# Altium schematic symbol library Interface.SchLib: 107 symbols (part 2 of 2)
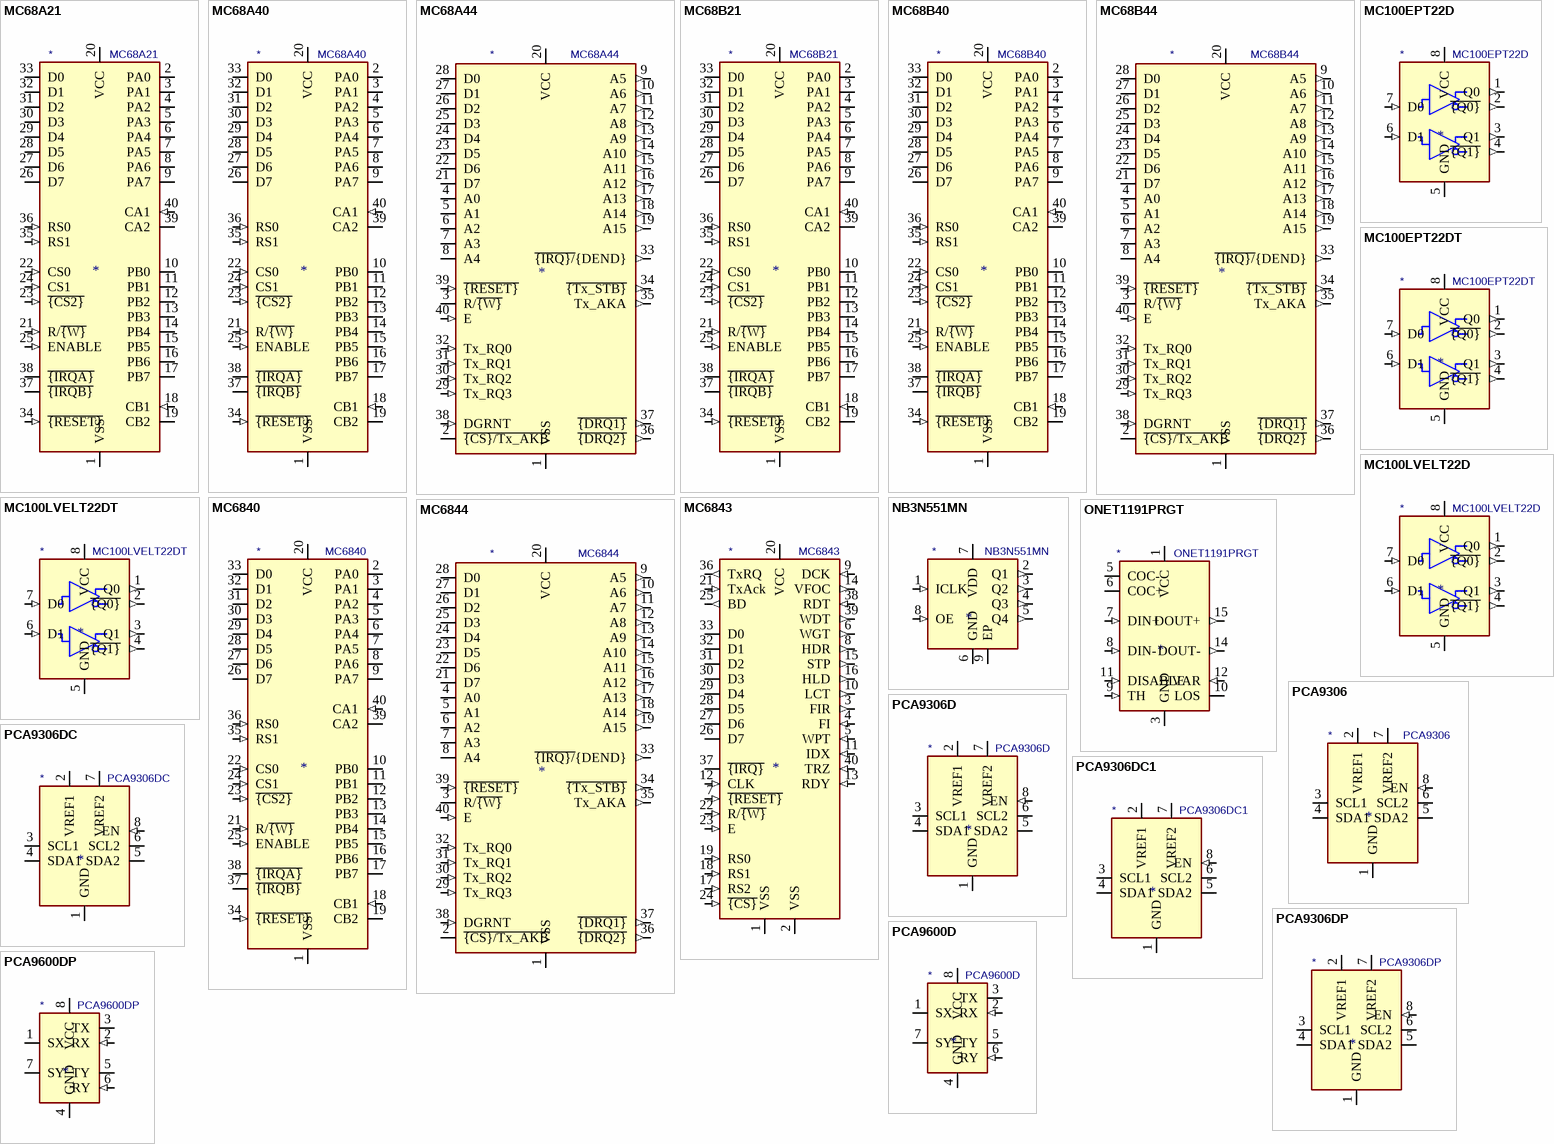
[diagram p6: symbols MC68A21 to PCA9600DP]

## NB3N551MN
designator *  value NB3N551MN
ki_keywords: clock buffer; ki_description: 1:4 Low Skew Clock Buffer, DFN-8; ki_fp_filters: DFN*1EP*2x2mm*P0.5mm*; Footprint: Package_DFN_QFN:DFN-8-1EP_2x2mm_P0.5mm_EP0.9x1.3mm; Supplier: https://www.onsemi.com/pub/Collateral/NB3N551-D.PDF
footprint DFN-8-1EP_2x2mm_P0.5mm_EP0.9x1.3mm
pins: 1 ICLK (in), 2 Q1 (out), 3 Q2 (out), 4 Q3 (out), 5 Q4 (out), 6 GND (power), 7 VDD (power), 8 OE (in), 9 EP

## ONET1191PRGT
designator *  value ONET1191PRGT
ki_keywords: limiting amplifier gigabit ethernet sfp sfp+; ki_description: 11.3-Gbps Limiting Amplifier, VQFN-16; ki_fp_filters: VQFN*1EP*3x3mm*P0.5mm*; Footprint: Package_DFN_QFN:VQFN-16-1EP_3x3mm_P0.5mm_EP1.68x1.68mm; Supplier: http://www.ti.com/lit/ds/symlink/onet1191p.pdf
footprint VQFN-16-1EP_3x3mm_P0.5mm_EP1.68x1.68mm
pins: 1 VCC (power), 2 VCC hidden, 3 GND (power), 4 GND hidden, 5 COC-, 6 COC+, 7 DIN+ (in), 8 DIN- (in), 9 TH (in), 10 LOS (oc), 11 DISABLE (in), 12 VAR (in), 13 GND hidden, 14 DOUT- (out), 15 DOUT+ (out), 16 GND hidden, 17 GND hidden

## PCA9306
designator *  value PCA9306
ki_keywords: Dual bidirectional I2C Bus and SMBus voltage level translator; ki_fp_filters: SSOP*2.95x2.8mm*P0.65mm* VSSOP*2.3x2mm*P0.5mm* X2SON*1.4x1mm*P0.35mm*; Supplier: http://www.ti.com/lit/ds/symlink/pca9306.pdf; ki_description: Dual bidirectional I2C Bus and SMBus voltage level translator
pins: 1 GND (power), 2 VREF1 (power), 3 SCL1 (io), 4 SDA1 (io), 5 SDA2 (io), 6 SCL2 (io), 7 VREF2 (power), 8 EN (in)

## PCA9306D
designator *  value PCA9306D
ki_keywords: I2C SMBus; ki_description: Dual bidirectional I2C Bus and SMBus voltage level translator, SO-8; ki_fp_filters: SO*3.9x4.9mm*P1.27mm*; Footprint: Package_SO:SO-8_3.9x4.9mm_P1.27mm; Supplier: https://www.nxp.com/docs/en/data-sheet/PCA9306.pdf
footprint SO-8_3.9x4.9mm_P1.27mm
pins: 1 GND (power), 2 VREF1 (power), 3 SCL1 (io), 4 SDA1 (io), 5 SDA2 (io), 6 SCL2 (io), 7 VREF2 (power), 8 EN (in)

## PCA9306DC
designator *  value PCA9306DC
ki_keywords: I2C SMBus; ki_description: Dual bidirectional I2C Bus and SMBus voltage level translator, VSSOP-8, Discontinued; ki_fp_filters: VSSOP*2.3x2mm*P0.5mm*; Footprint: Package_SO:VSSOP-8_2.3x2mm_P0.5mm; Supplier: https://www.nxp.com/docs/en/data-sheet/PCA9306.pdf
footprint VSSOP-8_2.3x2mm_P0.5mm
pins: 1 GND (power), 2 VREF1 (power), 3 SCL1 (io), 4 SDA1 (io), 5 SDA2 (io), 6 SCL2 (io), 7 VREF2 (power), 8 EN (in)

## PCA9306DC1
designator *  value PCA9306DC1
ki_keywords: I2C SMBus; ki_description: Dual bidirectional I2C Bus and SMBus voltage level translator, VSSOP-8; ki_fp_filters: VSSOP*2.3x2mm*P0.5mm*; Footprint: Package_SO:VSSOP-8_2.3x2mm_P0.5mm; Supplier: https://www.nxp.com/docs/en/data-sheet/PCA9306.pdf
footprint VSSOP-8_2.3x2mm_P0.5mm
pins: 1 GND (power), 2 VREF1 (power), 3 SCL1 (io), 4 SDA1 (io), 5 SDA2 (io), 6 SCL2 (io), 7 VREF2 (power), 8 EN (in)

## PCA9306DP
designator *  value PCA9306DP
ki_keywords: I2C SMBus; ki_description: Dual bidirectional I2C Bus and SMBus voltage level translator, TSSOP-8; ki_fp_filters: TSSOP*3x3mm*P0.65mm*; Footprint: Package_SO:TSSOP-8_3x3mm_P0.65mm; Supplier: https://www.nxp.com/docs/en/data-sheet/PCA9306.pdf
footprint TSSOP-8_3x3mm_P0.65mm
pins: 1 GND (power), 2 VREF1 (power), 3 SCL1 (io), 4 SDA1 (io), 5 SDA2 (io), 6 SCL2 (io), 7 VREF2 (power), 8 EN (in)

## PCA9600D
designator *  value PCA9600D
ki_keywords: I2C buffer; ki_description: Dual bidirectional bus buffer, SO-8; ki_fp_filters: SO*3.9x4.9mm*P1.27mm*; Footprint: Package_SO:SO-8_3.9x4.9mm_P1.27mm; Supplier: https://www.nxp.com/docs/en/data-sheet/PCA9600.pdf
footprint SO-8_3.9x4.9mm_P1.27mm
pins: 1 SX (io), 2 RX (in), 3 TX (oc), 4 GND (power), 5 TY (oc), 6 RY (in), 7 SY (io), 8 VCC (power)

## PCA9600DP
designator *  value PCA9600DP
ki_keywords: I2C buffer; ki_description: Dual bidirectional bus buffer, TSSOP-8; ki_fp_filters: TSSOP*3x3mm*P0.65mm*; Footprint: Package_SO:TSSOP-8_3x3mm_P0.65mm; Supplier: https://www.nxp.com/docs/en/data-sheet/PCA9600.pdf
footprint TSSOP-8_3x3mm_P0.65mm
pins: 1 SX (io), 2 RX (in), 3 TX (oc), 4 GND (power), 5 TY (oc), 6 RY (in), 7 SY (io), 8 VCC (power)

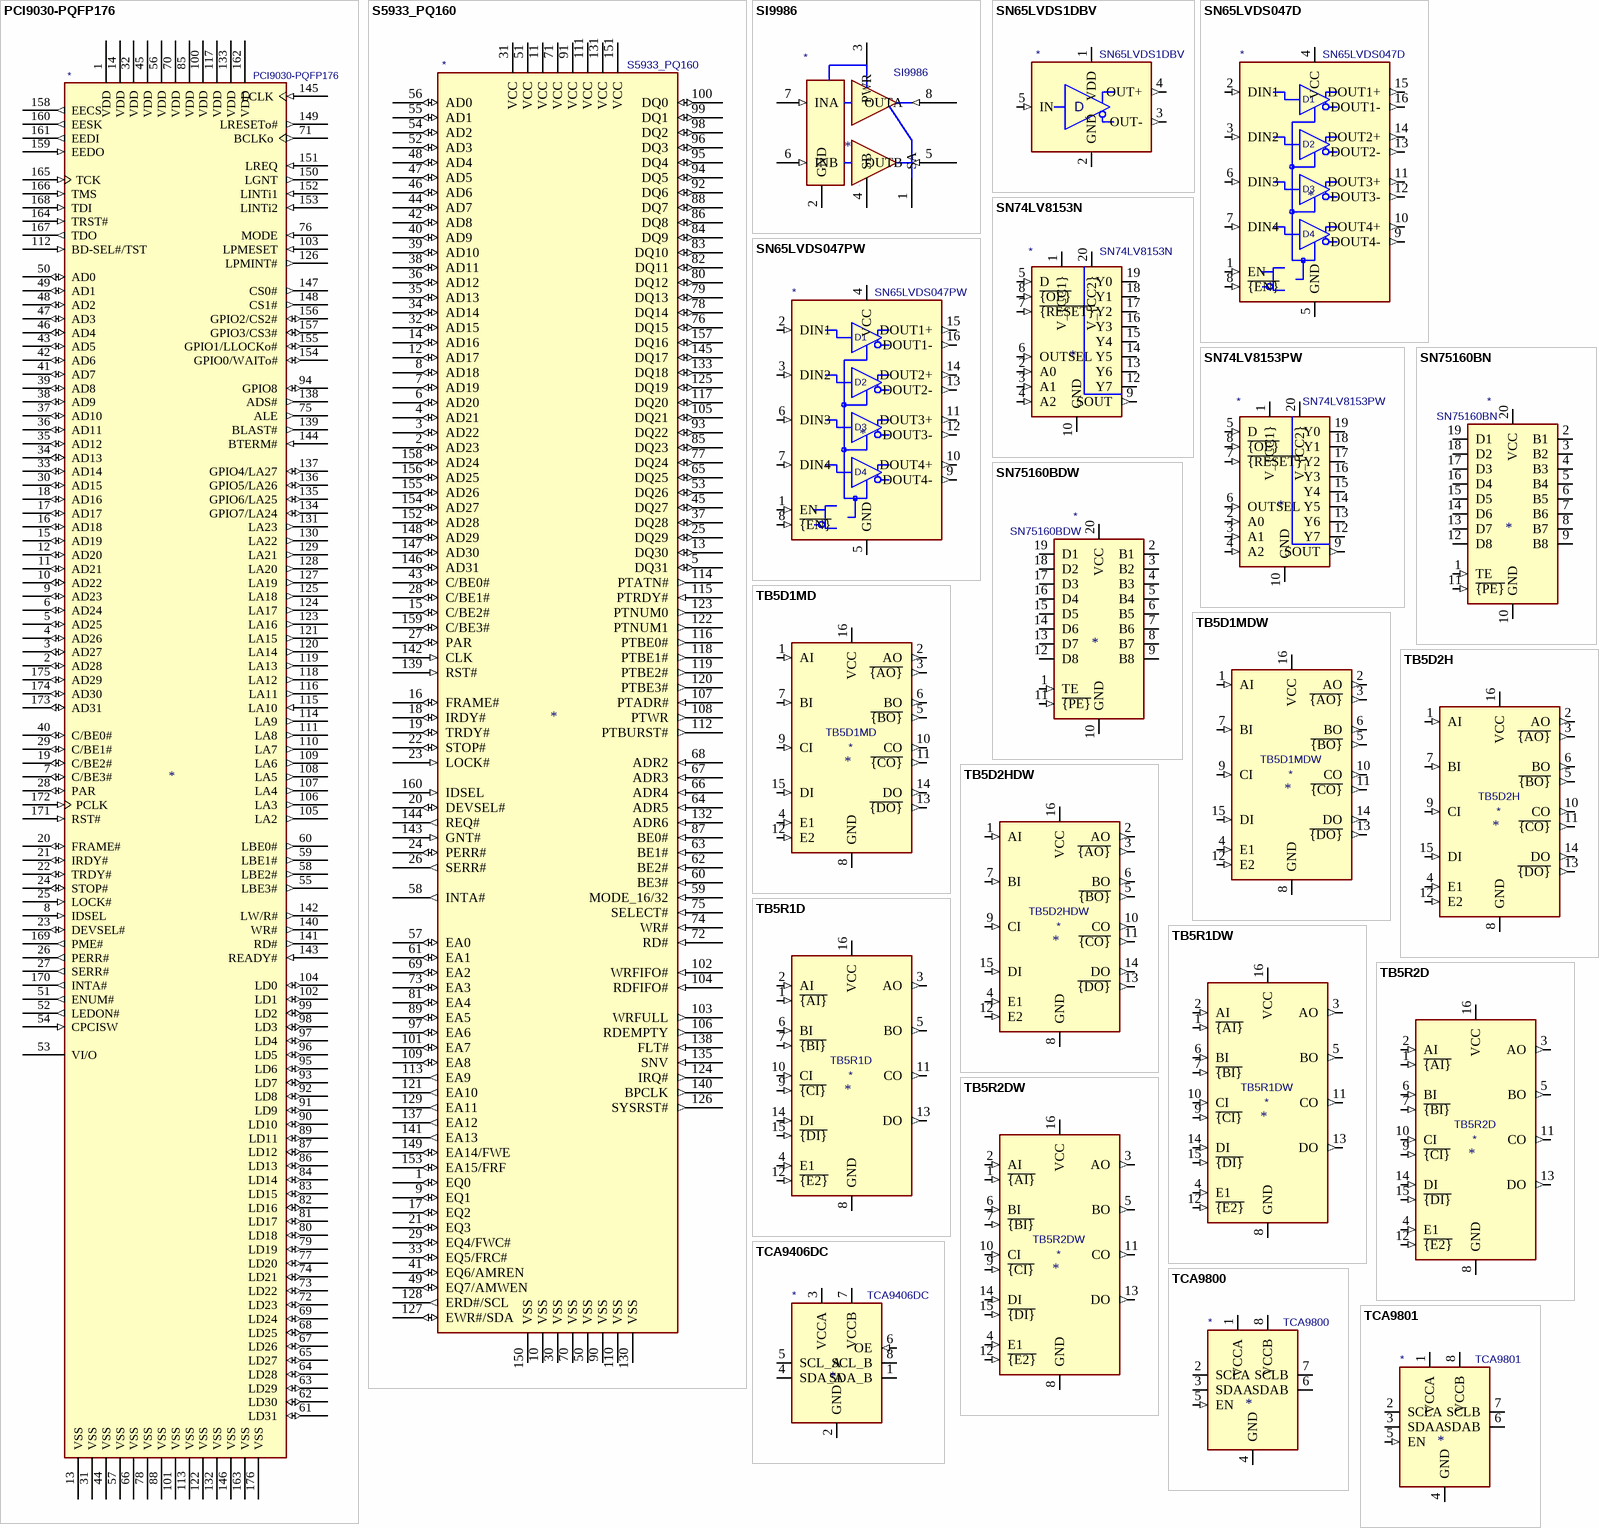
[diagram p4: symbols PCI9030-PQFP176 to TCA9801]

## PCI9030-PQFP176
designator *  value PCI9030-PQFP176
ki_keywords: PCI; ki_description: PCI SMARTarget I/O Accelerator; ki_fp_filters: LQFP*24x24mm*P0.5mm*; Footprint: Package_QFP:LQFP-176_24x24mm_P0.5mm; Supplier: http://lhcb-online.web.cern.ch/lhcb-online/ecs/ccpc/docs/plc-9030-databook.pdf
footprint LQFP-176_24x24mm_P0.5mm
pins: 1 VDD (power), 2 AD28 (io), 3 AD27 (io), 4 AD26 (io), 5 AD25 (io), 6 AD24 (io), 7 C/BE3# (io), 8 IDSEL (in), 9 AD23 (io), 10 AD22 (io), 11 AD21 (io), 12 AD20 (io), 13 VSS (power), 14 VDD (power), 15 AD19 (io), 16 AD18 (io), 17 AD17 (io), 18 AD16 (io), 19 C/BE2# (io), 20 FRAME# (io), 21 IRDY# (io), 22 TRDY# (io), 23 DEVSEL# (io), 24 STOP# (io), 25 LOCK# (in), 26 PERR# (out), 27 SERR# (out), 28 PAR (io), 29 C/BE1# (io), 30 AD15 (io), 31 VSS (power), 32 VDD (power), 33 AD14 (io), 34 AD13 (io), 35 AD12 (io), 36 AD11 (io), 37 AD10 (io), 38 AD9 (io), 39 AD8 (io), 40 C/BE0# (io), 41 AD7 (io), 42 AD6 (io), 43 AD5 (io), 44 VSS (power), 45 VDD (power), 46 AD4 (io), 47 AD3 (io), 48 AD2 (io), 49 AD1 (io), 50 AD0 (io), 51 ENUM# (out), 52 LEDON# (out), 53 VI/O (power), 54 CPCISW (in), 55 LBE3# (out), 56 VDD (power), 57 VSS (power), 58 LBE2# (out), 59 LBE1# (out), 60 LBE0# (out), 61 LD31 (io), 62 LD30 (io), 63 LD29 (io), 64 LD28 (io), 65 LD27 (io), 66 VSS (power), 67 LD26 (io), 68 LD25 (io), 69 LD24 (io), 70 VDD (power), 71 BCLKo (out), 72 LD23 (io), 73 LD22 (io), 74 LD21 (io), 75 ALE (out), 76 MODE (in), 77 LD20 (io), 78 VSS (power), 79 LD19 (io), 80 LD18 (io), 81 LD17 (io), 82 LD16 (io), 83 LD15 (io), 84 LD14 (io), 85 VDD (power), 86 LD13 (io), 87 LD12 (io), 88 VSS (power), 89 LD11 (io), 90 LD10 (io), 91 LD9 (io), 92 LD8 (io), 93 LD7 (io), 94 GPIO8 (io), 95 LD6 (io), 96 LD5 (io), 97 LD4 (io), 98 LD3 (io), 99 LD2 (io), 100 VDD (power), 101 VSS (power), 102 LD1 (io), 103 LPMESET (in), 104 LD0 (io), 105 LA2 (out), 106 LA3 (out), 107 LA4 (out), 108 LA5 (out), 109 LA6 (out), 110 LA7 (out), 111 LA8 (out), 112 BD-SEL#/TST (in), 113 VSS (power), 114 LA9 (out), 115 LA10 (in), 116 LA11 (out), 117 VDD (power), 118 LA12 (out), 119 LA13 (out), 120 LA14 (out), 121 LA15 (out), 122 VSS (power), 123 LA16 (out), 124 LA17 (out), 125 LA18 (out), 126 LPMINT# (out), 127 LA19 (out), 128 LA20 (out), 129 LA21 (out), 130 LA22 (out), 131 LA23 (out), 132 VSS (power), 133 VDD (power), 134 GPIO7/LA24 (io), 135 GPIO6/LA25 (io), 136 GPIO5/LA26 (io), 137 GPIO4/LA27 (io), 138 ADS# (out), 139 BLAST# (out), 140 WR# (out), 141 RD# (out), 142 LW/R# (out), 143 READY# (in), 144 BTERM# (in), 145 LCLK (in), 146 VSS (power), 147 CS0# (out), 148 CS1# (out), 149 LRESETo# (out), 150 LGNT (out), 151 LREQ (in), 152 LINTi1 (in), 153 LINTi2 (in), 154 GPIO0/WAITo# (io), 155 GPIO1/LLOCKo# (io), 156 GPIO2/CS2# (io), 157 GPIO3/CS3# (io), 158 EECS (out), 159 EEDO (in), 160 EESK (out), 161 EEDI (out), 162 VDD (power), 163 VSS (power), 164 TRST# (in), 165 TCK (in), 166 TMS (in), 167 TDO (out), 168 TDI (in), 169 PME# (out), 170 INTA# (out), 171 RST# (in), 172 PCLK (in), 173 AD31 (io), 174 AD30 (io), 175 AD29 (io), 176 VSS (power)

## S5933_PQ160
designator *  value S5933_PQ160
ki_keywords: PCI 2.1 Compliant Master/Slave Device; ki_description: PCI 2.1 Compliant Master/Slave Device, PQFP-160; ki_fp_filters: PQFP*28x28mm*P0.65mm*; Footprint: Package_QFP:PQFP-160_28x28mm_P0.65mm; Supplier: http://datasheet.datasheetarchive.com/originals/distributors/Datasheets-35/DSA-684194.pdf
footprint PQFP-160_28x28mm_P0.65mm
pins: 1 EQ0 (io), 2 AD23 (io), 3 AD22 (io), 4 AD21 (io), 5 DQ31 (io), 6 AD20 (io), 7 AD19 (io), 8 AD18 (io), 9 EQ1 (io), 10 VSS (power), 11 VCC (power), 12 AD17 (io), 13 DQ30 (io), 14 AD16 (io), 15 C/BE2# (io), 16 FRAME# (io), 17 EQ2 (io), 18 IRDY# (io), 19 TRDY# (io), 20 DEVSEL# (io), 21 EQ3 (io), 22 STOP# (io), 23 LOCK# (in), 24 PERR# (io), 25 DQ29 (io), 26 SERR# (out), 27 PAR (io), 28 C/BE1# (io), 29 EQ4/FWC# (io), 30 VSS (power), 31 VCC (power), 32 AD15 (io), 33 EQ5/FRC# (io), 34 AD14 (io), 35 AD13 (io), 36 AD12 (io), 37 DQ28 (io), 38 AD11 (io), 39 AD10 (io), 40 AD9 (io), 41 EQ6/AMREN (io), 42 AD8 (io), 43 C/BE0# (io), 44 AD7 (io), 45 DQ27 (io), 46 AD6 (io), 47 AD5 (io), 48 AD4 (io), 49 EQ7/AMWEN (io), 50 VSS (power), 51 VCC (power), 52 AD3 (io), 53 DQ26 (io), 54 AD2 (io), 55 AD1 (io), 56 AD0 (io), 57 EA0 (io), 58 INTA# (out), 59 MODE_16/32 (in), 60 BE3# (in), 61 EA1 (io), 62 BE2# (in), 63 BE1# (in), 64 ADR5 (in), 65 DQ25 (io), 66 ADR4 (in), 67 ADR3 (in), 68 ADR2 (in), 69 EA2 (io), 70 VSS (power), 71 VCC (power), 72 RD# (in), 73 EA3 (io), 74 WR# (in), 75 SELECT# (in), 76 DQ15 (io), 77 DQ24 (io), 78 DQ14 (io), 79 DQ13 (io), 80 DQ12 (io), 81 EA4 (io), 82 DQ11 (io), 83 DQ10 (io), 84 DQ9 (io), 85 DQ23 (io), 86 DQ8 (io), 87 BE0# (in), 88 DQ7 (io), 89 EA5 (io), 90 VSS (power), 91 VCC (power), 92 DQ6 (io), 93 DQ22 (io), 94 DQ5 (io), 95 DQ4 (io), 96 DQ3 (io), 97 EA6 (io), 98 DQ2 (io), 99 DQ1 (io), 100 DQ0 (io), 101 EA7 (io), 102 WRFIFO# (in), 103 WRFULL (out), 104 RDFIFO# (in), 105 DQ21 (io), 106 RDEMPTY (out), 107 PTADR# (in), 108 PTWR (out), 109 EA8 (io), 110 VSS (power), 111 VCC (power), 112 PTBURST# (out), 113 EA9 (out), 114 PTATN# (out), 115 PTRDY# (in), 116 PTBE0# (out), 117 DQ20 (io), 118 PTBE1# (out), 119 PTBE2# (out), 120 PTBE3# (out), 121 EA10 (out), 122 PTNUM1 (out), 123 PTNUM0 (out), 124 IRQ# (out), 125 DQ19 (io), 126 SYSRST# (out), 127 EWR#/SDA (io), 128 ERD#/SCL (out), 129 EA11 (out), 130 VSS (power), 131 VCC (power), 132 ADR6 (in), 133 DQ18 (io), 135 SNV (in), 137 EA12 (out), 138 FLT# (in), 139 RST# (in), 140 BPCLK (out), 141 EA13 (out), 142 CLK (in), 143 GNT# (in), 144 REQ# (out), 145 DQ17 (io), 146 AD31 (io), 147 AD30 (io), 148 AD29 (io), 149 EA14/FWE (io), 150 VSS (power), 151 VCC (power), 152 AD28 (io), 153 EA15/FRF (io), 154 AD27 (io), 155 AD26 (io), 156 AD25 (io), 157 DQ16 (io), 158 AD24 (io), 159 C/BE3# (io), 160 IDSEL (in)

## SI9986
designator *  value SI9986
ki_keywords: integrated, buffered H-bridge; ki_description: Integrated, buffered H-bridge with TTL compatible inputs, 1A, 12V, SOIC-8; ki_fp_filters: SOIC*3.9x4.9mm*P1.27mm*; Footprint: Package_SO:SOIC-8_3.9x4.9mm_P1.27mm; Supplier: http://www.vishay.com/docs/70007/si9986.pdf
footprint SOIC-8_3.9x4.9mm_P1.27mm
pins: 1 SA (power), 2 GND (power), 3 PWR (power), 4 SB (power), 5 OUTB (in), 6 INB (in), 7 INA (in), 8 OUTA (in)

## SN65LVDS1DBV
designator *  value SN65LVDS1DBV
ki_keywords: LVDS Driver; ki_description: High-Speed Differential Line Driver, 630Mbps, SOT-23-5; ki_fp_filters: SOT?23*; Footprint: Package_TO_SOT_SMD:SOT-23-5; Supplier: http://www.ti.com/lit/ds/symlink/sn65lvds1.pdf
footprint SOT-23-5
pins: 1 VDD (power), 2 GND (power), 3 OUT- (out), 4 OUT+ (out), 5 IN (in)
text: D

## SN65LVDS047D
designator *  value SN65LVDS047D
ki_keywords: Quad LVDS Driver; ki_description: Quad LVDS Differential Line Driver, 400Mbps, SOIC-16; ki_fp_filters: SOIC*3.9x9.9mm*P1.27mm*; Footprint: Package_SO:SOIC-16_3.9x9.9mm_P1.27mm; Supplier: http://www.ti.com/lit/ds/symlink/sn65lvds047.pdf
footprint SOIC-16_3.9x9.9mm_P1.27mm
pins: 1 EN (in), 2 DIN1 (in), 3 DIN2 (in), 4 VCC (power), 5 GND (power), 6 DIN3 (in), 7 DIN4 (in), 8 ~{{EN}} (in), 9 DOUT4- (out), 10 DOUT4+ (out), 11 DOUT3+ (out), 12 DOUT3- (out), 13 DOUT2- (out), 14 DOUT2+ (out), 15 DOUT1+ (out), 16 DOUT1- (out)
text: D1; D2; D3; D4

## SN65LVDS047PW
designator *  value SN65LVDS047PW
ki_keywords: Quad LVDS Driver; ki_description: Quad LVDS Differential Line Driver, 400Mbps, TSSOP-16; ki_fp_filters: TSSOP*4.4x5mm*P0.65mm*; Footprint: Package_SO:TSSOP-16_4.4x5mm_P0.65mm; Supplier: http://www.ti.com/lit/ds/symlink/sn65lvds047.pdf
footprint TSSOP-16_4.4x5mm_P0.65mm
pins: 1 EN (in), 2 DIN1 (in), 3 DIN2 (in), 4 VCC (power), 5 GND (power), 6 DIN3 (in), 7 DIN4 (in), 8 ~{{EN}} (in), 9 DOUT4- (out), 10 DOUT4+ (out), 11 DOUT3+ (out), 12 DOUT3- (out), 13 DOUT2- (out), 14 DOUT2+ (out), 15 DOUT1+ (out), 16 DOUT1- (out)
text: D1; D2; D3; D4

## SN74LV8153N
designator *  value SN74LV8153N
ki_keywords: serial to parallel; ki_description: UART, Single wire input, Output 40mA, Open Collector or Push Pull, PDIP-20; ki_fp_filters: DIP*W7.62mm*; Footprint: Package_DIP:DIP-20_W7.62mm; Supplier: https://www.ti.com/lit/ds/symlink/sn74lv8153.pdf
footprint DIP-20_W7.62mm
pins: 1 V_{CC1} (power), 2 A0 (in), 3 A1 (in), 4 A2 (in), 5 D (in), 6 OUTSEL (in), 7 ~{{RESET}} (in), 8 ~{{OE}} (in), 9 SOUT (out), 10 GND (power), 11 GND hidden, 12 Y7 (oc), 13 Y6 (oc), 14 Y5 (oc), 15 Y4 (oc), 16 Y3 (oc), 17 Y2 (oc), 18 Y1 (oc), 19 Y0 (oc), 20 V_{CC2} (power)

## SN74LV8153PW
designator *  value SN74LV8153PW
ki_keywords: serial to parallel; ki_description: UART, Single wire input, Output 40mA, Open Collector or Push Pull, TSSOP-20; ki_fp_filters: TSSOP*4.4x6.5mm*P0.65mm*; Footprint: Package_SO:TSSOP-20_4.4x6.5mm_P0.65mm; Supplier: https://www.ti.com/lit/ds/symlink/sn74lv8153.pdf
footprint TSSOP-20_4.4x6.5mm_P0.65mm
pins: 1 V_{CC1} (power), 2 A0 (in), 3 A1 (in), 4 A2 (in), 5 D (in), 6 OUTSEL (in), 7 ~{{RESET}} (in), 8 ~{{OE}} (in), 9 SOUT (out), 10 GND (power), 11 GND hidden, 12 Y7 (oc), 13 Y6 (oc), 14 Y5 (oc), 15 Y4 (oc), 16 Y3 (oc), 17 Y2 (oc), 18 Y1 (oc), 19 Y0 (oc), 20 V_{CC2} (power)

## SN75160BDW
designator *  value SN75160BDW
ki_keywords: gpib bidirectional bus transceiver; ki_description: Octal general-purpose interface bus transceiver, SOIC-20; ki_fp_filters: SOIC*7.5x12.8mm*P1.27mm*; Footprint: Package_SO:SOIC-20W_7.5x12.8mm_P1.27mm; Supplier: http://www.ti.com/lit/ds/symlink/sn75160b.pdf
footprint SOIC-20W_7.5x12.8mm_P1.27mm
pins: 1 TE (in), 2 B1 (io), 3 B2 (io), 4 B3 (io), 5 B4 (io), 6 B5 (io), 7 B6 (io), 8 B7 (io), 9 B8 (io), 10 GND (power), 11 ~{{PE}} (in), 12 D8 (io), 13 D7 (io), 14 D6 (io), 15 D5 (io), 16 D4 (io), 17 D3 (io), 18 D2 (io), 19 D1 (io), 20 VCC (power)

## SN75160BN
designator *  value SN75160BN
ki_keywords: gpib bidirectional bus transceiver; ki_description: Octal general-purpose interface bus transceiver, DIP-20; ki_fp_filters: DIP*W7.62mm*; Footprint: Package_DIP:DIP-20_W7.62mm; Supplier: http://www.ti.com/lit/ds/symlink/sn75160b.pdf
footprint DIP-20_W7.62mm
pins: 1 TE (in), 2 B1 (io), 3 B2 (io), 4 B3 (io), 5 B4 (io), 6 B5 (io), 7 B6 (io), 8 B7 (io), 9 B8 (io), 10 GND (power), 11 ~{{PE}} (in), 12 D8 (io), 13 D7 (io), 14 D6 (io), 15 D5 (io), 16 D4 (io), 17 D3 (io), 18 D2 (io), 19 D1 (io), 20 VCC (power)

## TB5D1MD
designator *  value TB5D1MD
ki_keywords: differential PECL driver; ki_description: Quad differential PECL driver; ki_fp_filters: SOIC*3.9x9.9mm*P1.27*; Footprint: Package_SO:SOIC-16_3.9x9.9mm_P1.27mm; Supplier: http://www.ti.com/lit/ds/symlink/tb5d2h.pdf
footprint SOIC-16_3.9x9.9mm_P1.27mm
pins: 1 AI (in), 2 AO (out), 3 ~{{AO}} (out), 4 E1 (in), 5 ~{{BO}} (out), 6 BO (out), 7 BI (in), 8 GND (power), 9 CI (in), 10 CO (out), 11 ~{{CO}} (out), 12 E2 (in), 13 ~{{DO}} (out), 14 DO (out), 15 DI (in), 16 VCC (power)

## TB5D1MDW
designator *  value TB5D1MDW
ki_keywords: differential PECL driver; ki_description: Quad differential PECL driver; ki_fp_filters: SOIC*7.5x10.3mm*P1.27*; Footprint: Package_SO:SOIC-16W_7.5x10.3mm_P1.27mm; Supplier: http://www.ti.com/lit/ds/symlink/tb5d2h.pdf
footprint SOIC-16W_7.5x10.3mm_P1.27mm
pins: 1 AI (in), 2 AO (out), 3 ~{{AO}} (out), 4 E1 (in), 5 ~{{BO}} (out), 6 BO (out), 7 BI (in), 8 GND (power), 9 CI (in), 10 CO (out), 11 ~{{CO}} (out), 12 E2 (in), 13 ~{{DO}} (out), 14 DO (out), 15 DI (in), 16 VCC (power)

## TB5D2H
designator *  value TB5D2H
ki_keywords: differential PECL driver; ki_description: Quad differential PECL driver; ki_fp_filters: SOIC*3.9x9.9mm*P1.27*; Footprint: Package_SO:SOIC-16_3.9x9.9mm_P1.27mm; Supplier: http://www.ti.com/lit/ds/symlink/tb5d2h.pdf
footprint SOIC-16_3.9x9.9mm_P1.27mm
pins: 1 AI (in), 2 AO (out), 3 ~{{AO}} (out), 4 E1 (in), 5 ~{{BO}} (out), 6 BO (out), 7 BI (in), 8 GND (power), 9 CI (in), 10 CO (out), 11 ~{{CO}} (out), 12 E2 (in), 13 ~{{DO}} (out), 14 DO (out), 15 DI (in), 16 VCC (power)

## TB5D2HDW
designator *  value TB5D2HDW
ki_keywords: differential PECL driver; ki_description: Quad differential PECL driver; ki_fp_filters: SOIC*7.5x10.3mm*P1.27*; Footprint: Package_SO:SOIC-16W_7.5x10.3mm_P1.27mm; Supplier: http://www.ti.com/lit/ds/symlink/tb5d2h.pdf
footprint SOIC-16W_7.5x10.3mm_P1.27mm
pins: 1 AI (in), 2 AO (out), 3 ~{{AO}} (out), 4 E1 (in), 5 ~{{BO}} (out), 6 BO (out), 7 BI (in), 8 GND (power), 9 CI (in), 10 CO (out), 11 ~{{CO}} (out), 12 E2 (in), 13 ~{{DO}} (out), 14 DO (out), 15 DI (in), 16 VCC (power)

## TB5R1D
designator *  value TB5R1D
ki_keywords: differential PECL reciver; ki_description: Quad differential PECL reciver; ki_fp_filters: SOIC*3.9x9.9mm*P1.27*; Footprint: Package_SO:SOIC-16_3.9x9.9mm_P1.27mm; Supplier: http://www.ti.com/lit/ds/symlink/tb5r1.pdf
footprint SOIC-16_3.9x9.9mm_P1.27mm
pins: 1 ~{{AI}} (in), 2 AI (in), 3 AO (out), 4 E1 (in), 5 BO (out), 6 BI (in), 7 ~{{BI}} (in), 8 GND (power), 9 ~{{CI}} (in), 10 CI (in), 11 CO (out), 12 ~{{E2}} (in), 13 DO (out), 14 DI (in), 15 ~{{DI}} (in), 16 VCC (power)

## TB5R1DW
designator *  value TB5R1DW
ki_keywords: differential PECL reciver; ki_description: Quad differential PECL reciver; ki_fp_filters: SOIC*7.5x10.3mm*P1.27*; Footprint: Package_SO:SOIC-16W_7.5x10.3mm_P1.27mm; Supplier: http://www.ti.com/lit/ds/symlink/tb5r1.pdf
footprint SOIC-16W_7.5x10.3mm_P1.27mm
pins: 1 ~{{AI}} (in), 2 AI (in), 3 AO (out), 4 E1 (in), 5 BO (out), 6 BI (in), 7 ~{{BI}} (in), 8 GND (power), 9 ~{{CI}} (in), 10 CI (in), 11 CO (out), 12 ~{{E2}} (in), 13 DO (out), 14 DI (in), 15 ~{{DI}} (in), 16 VCC (power)

## TB5R2D
designator *  value TB5R2D
ki_keywords: differential PECL reciver; ki_description: Quad differential PECL reciver; ki_fp_filters: SOIC*3.9x9.9mm*P1.27*; Footprint: Package_SO:SOIC-16_3.9x9.9mm_P1.27mm; Supplier: http://www.ti.com/lit/ds/symlink/tb5r1.pdf
footprint SOIC-16_3.9x9.9mm_P1.27mm
pins: 1 ~{{AI}} (in), 2 AI (in), 3 AO (out), 4 E1 (in), 5 BO (out), 6 BI (in), 7 ~{{BI}} (in), 8 GND (power), 9 ~{{CI}} (in), 10 CI (in), 11 CO (out), 12 ~{{E2}} (in), 13 DO (out), 14 DI (in), 15 ~{{DI}} (in), 16 VCC (power)

## TB5R2DW
designator *  value TB5R2DW
ki_keywords: differential PECL reciver; ki_description: Quad differential PECL reciver; ki_fp_filters: SOIC*7.5x10.3mm*P1.27*; Footprint: Package_SO:SOIC-16W_7.5x10.3mm_P1.27mm; Supplier: http://www.ti.com/lit/ds/symlink/tb5r1.pdf
footprint SOIC-16W_7.5x10.3mm_P1.27mm
pins: 1 ~{{AI}} (in), 2 AI (in), 3 AO (out), 4 E1 (in), 5 BO (out), 6 BI (in), 7 ~{{BI}} (in), 8 GND (power), 9 ~{{CI}} (in), 10 CI (in), 11 CO (out), 12 ~{{E2}} (in), 13 DO (out), 14 DI (in), 15 ~{{DI}} (in), 16 VCC (power)

## TCA9406DC
designator *  value TCA9406DC
ki_keywords: Bidirectional 1-MHz I2C SMBus Voltage-Level Translator 8kV HBM ESD; ki_description: 2-Bit Bidirectional 1-MHz, I2C Bus and SMBus Voltage-Level Translator With 8-kV HBM ESD; ki_fp_filters: SSOP*2.95x2.8mm*P0.65mm* VSSOP*2.3x2mm*P0.5mm*; Supplier: www.ti.com/lit/ds/symlink/tca9406.pdf
pins: 1 SDA_B (io), 2 GND (power), 3 VCCA (power), 4 SDA_A (io), 5 SCL_A (io), 6 OE (in), 7 VCCB (power), 8 SCL_B (io)

## TCA9800
designator *  value TCA9800
ki_keywords: I2C buffer repeater; ki_description: Level-Translating I2C Bus Buffer/Repeater 0.54mA Current Source, VSSOP-8; ki_fp_filters: VSSOP*3.0x3.0mm*P0.65mm*; Footprint: Package_SO:VSSOP-8_3.0x3.0mm_P0.65mm; Supplier: http://www.ti.com/lit/ds/symlink/tca9800.pdf
footprint VSSOP-8_3.0x3.0mm_P0.65mm
pins: 1 VCCA (power), 2 SCLA (io), 3 SDAA (io), 4 GND (power), 5 EN (in), 6 SDAB (io), 7 SCLB (io), 8 VCCB (power)

## TCA9801
designator *  value TCA9801
ki_keywords: I2C buffer repeater; ki_description: Level-Translating I2C Bus Buffer/Repeater 1.1mA Current Source, VSSOP-8; ki_fp_filters: VSSOP*3.0x3.0mm*P0.65mm*; Footprint: Package_SO:VSSOP-8_3.0x3.0mm_P0.65mm; Supplier: http://www.ti.com/lit/ds/symlink/tca9801.pdf
footprint VSSOP-8_3.0x3.0mm_P0.65mm
pins: 1 VCCA (power), 2 SCLA (io), 3 SDAA (io), 4 GND (power), 5 EN (in), 6 SDAB (io), 7 SCLB (io), 8 VCCB (power)

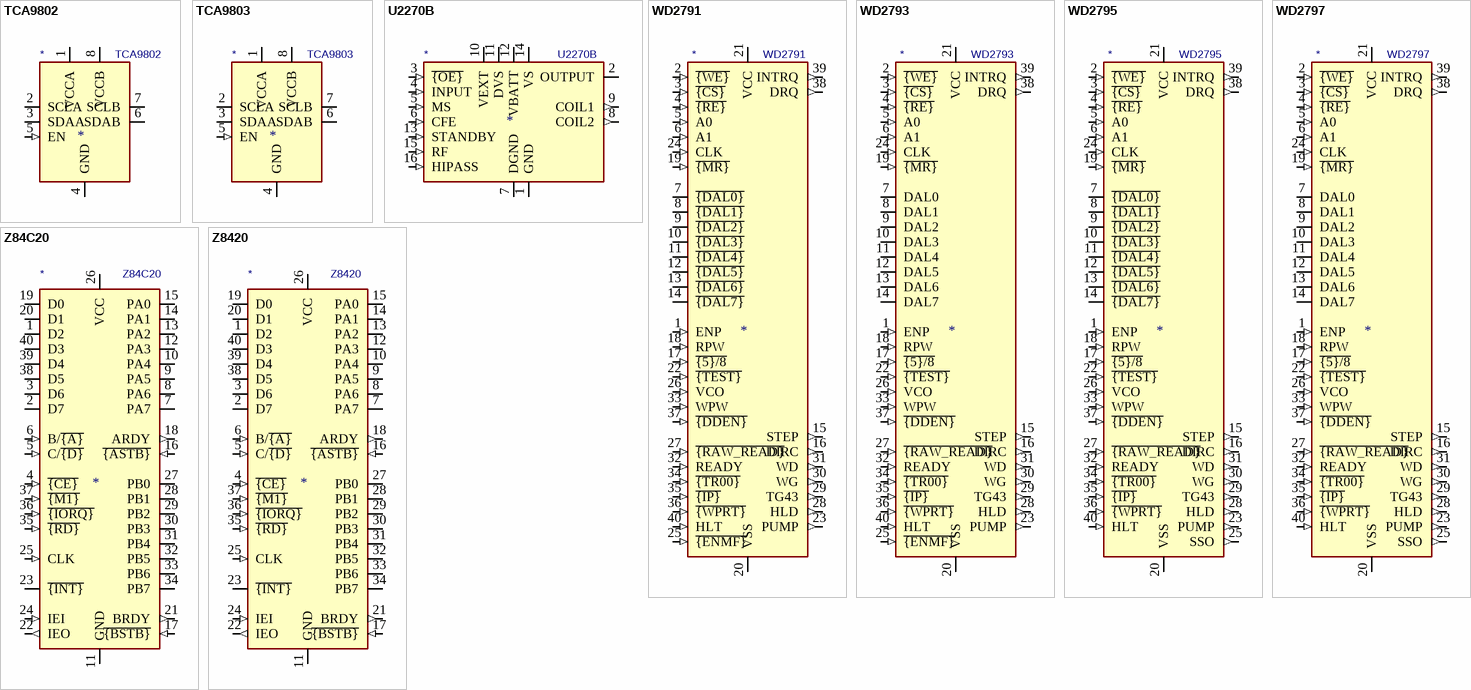
[diagram p5: symbols TCA9802 to Z8420]

## TCA9802
designator *  value TCA9802
ki_keywords: I2C buffer repeater; ki_description: Level-Translating I2C Bus Buffer/Repeater 2.2mA Current Source, VSSOP-8; ki_fp_filters: VSSOP*3.0x3.0mm*P0.65mm*; Footprint: Package_SO:VSSOP-8_3.0x3.0mm_P0.65mm; Supplier: http://www.ti.com/lit/ds/symlink/tca9802.pdf
footprint VSSOP-8_3.0x3.0mm_P0.65mm
pins: 1 VCCA (power), 2 SCLA (io), 3 SDAA (io), 4 GND (power), 5 EN (in), 6 SDAB (io), 7 SCLB (io), 8 VCCB (power)

## TCA9803
designator *  value TCA9803
ki_keywords: I2C buffer repeater; ki_description: Level-Translating I2C Bus Buffer/Repeater 3.3mA Current Source, VSSOP-8; ki_fp_filters: VSSOP*3.0x3.0mm*P0.65mm*; Footprint: Package_SO:VSSOP-8_3.0x3.0mm_P0.65mm; Supplier: http://www.ti.com/lit/ds/symlink/tca9803.pdf
footprint VSSOP-8_3.0x3.0mm_P0.65mm
pins: 1 VCCA (power), 2 SCLA (io), 3 SDAA (io), 4 GND (power), 5 EN (in), 6 SDAB (io), 7 SCLB (io), 8 VCCB (power)

## U2270B
designator *  value U2270B
ki_keywords: IDIC read/write base stations in contactless identification and immobilizer systems; ki_description: IDIC read/write base stations in contactless identification and immobilizer systems, SO-16; ki_fp_filters: SOIC*3.9x9.9mm*P1.27mm*; Footprint: Package_SO:SOIC-16_3.9x9.9mm_P1.27mm; Supplier: http://www.farnell.com/datasheets/94393.pdf
footprint SOIC-16_3.9x9.9mm_P1.27mm
pins: 1 GND (power), 2 OUTPUT (oc), 3 ~{{OE}} (in), 4 INPUT (in), 5 MS (in), 6 CFE (in), 7 DGND (power), 8 COIL2 (out), 9 COIL1 (out), 10 VEXT (power), 11 DVS (power), 12 VBATT (power), 13 STANDBY (in), 14 VS (power), 15 RF (in), 16 HIPASS (in)

## WD2791
designator *  value WD2791
ki_keywords: Floppy disk controller; ki_description: Floppy disk controller, DIP-40; ki_fp_filters: DIP*W15.24mm*; Footprint: Package_DIP:DIP-40_W15.24mm; Supplier: http://pdf.datasheetcatalog.com/datasheets2/12/1229802_1.pdf
footprint DIP-40_W15.24mm
pins: 1 ENP (in), 2 ~{{WE}} (in), 3 ~{{CS}} (in), 4 ~{{RE}} (in), 5 A0 (in), 6 A1 (in), 7 ~{{DAL0}} (hiz), 8 ~{{DAL1}} (hiz), 9 ~{{DAL2}} (hiz), 10 ~{{DAL3}} (hiz), 11 ~{{DAL4}} (hiz), 12 ~{{DAL5}} (hiz), 13 ~{{DAL6}} (hiz), 14 ~{{DAL7}} (hiz), 15 STEP (out), 16 DIRC (out), 17 ~{{5}/8} (in), 18 RPW (in), 19 ~{{MR}} (in), 20 VSS (power), 21 VCC (power), 22 ~{{TEST}} (in), 23 PUMP (out), 24 CLK (in), 25 ~{{ENMF}} (in), 26 VCO (in), 27 ~{{RAW_READ}} (in), 28 HLD (out), 29 TG43 (out), 30 WG (out), 31 WD (out), 32 READY (in), 33 WPW (in), 34 ~{{TR00}} (in), 35 ~{{IP}} (in), 36 ~{{WPRT}} (in), 37 ~{{DDEN}} (in), 38 DRQ (out), 39 INTRQ (out), 40 HLT (in)

## WD2793
designator *  value WD2793
ki_keywords: Floppy disk controller; ki_description: Floppy disk controller, DIP-40; ki_fp_filters: DIP*W15.24mm*; Footprint: Package_DIP:DIP-40_W15.24mm; Supplier: http://pdf.datasheetcatalog.com/datasheets2/12/1229802_1.pdf
footprint DIP-40_W15.24mm
pins: 1 ENP (in), 2 ~{{WE}} (in), 3 ~{{CS}} (in), 4 ~{{RE}} (in), 5 A0 (in), 6 A1 (in), 7 DAL0 (hiz), 8 DAL1 (hiz), 9 DAL2 (hiz), 10 DAL3 (hiz), 11 DAL4 (hiz), 12 DAL5 (hiz), 13 DAL6 (hiz), 14 DAL7 (hiz), 15 STEP (out), 16 DIRC (out), 17 ~{{5}/8} (in), 18 RPW (in), 19 ~{{MR}} (in), 20 VSS (power), 21 VCC (power), 22 ~{{TEST}} (in), 23 PUMP (out), 24 CLK (in), 25 ~{{ENMF}} (in), 26 VCO (in), 27 ~{{RAW_READ}} (in), 28 HLD (out), 29 TG43 (out), 30 WG (out), 31 WD (out), 32 READY (in), 33 WPW (in), 34 ~{{TR00}} (in), 35 ~{{IP}} (in), 36 ~{{WPRT}} (in), 37 ~{{DDEN}} (in), 38 DRQ (out), 39 INTRQ (out), 40 HLT (in)

## WD2795
designator *  value WD2795
ki_keywords: Floppy disk controller; ki_description: Floppy disk controller, DIP-40; ki_fp_filters: DIP*W15.24mm*; Footprint: Package_DIP:DIP-40_W15.24mm; Supplier: http://pdf.datasheetcatalog.com/datasheets2/12/1229802_1.pdf
footprint DIP-40_W15.24mm
pins: 1 ENP (in), 2 ~{{WE}} (in), 3 ~{{CS}} (in), 4 ~{{RE}} (in), 5 A0 (in), 6 A1 (in), 7 ~{{DAL0}} (hiz), 8 ~{{DAL1}} (hiz), 9 ~{{DAL2}} (hiz), 10 ~{{DAL3}} (hiz), 11 ~{{DAL4}} (hiz), 12 ~{{DAL5}} (hiz), 13 ~{{DAL6}} (hiz), 14 ~{{DAL7}} (hiz), 15 STEP (out), 16 DIRC (out), 17 ~{{5}/8} (in), 18 RPW (in), 19 ~{{MR}} (in), 20 VSS (power), 21 VCC (power), 22 ~{{TEST}} (in), 23 PUMP (out), 24 CLK (in), 25 SSO (out), 26 VCO (in), 27 ~{{RAW_READ}} (in), 28 HLD (out), 29 TG43 (out), 30 WG (out), 31 WD (out), 32 READY (in), 33 WPW (in), 34 ~{{TR00}} (in), 35 ~{{IP}} (in), 36 ~{{WPRT}} (in), 37 ~{{DDEN}} (in), 38 DRQ (out), 39 INTRQ (out), 40 HLT (in)

## WD2797
designator *  value WD2797
ki_keywords: Floppy disk controller; ki_description: Floppy disk controller, DIP-40; ki_fp_filters: DIP*W15.24mm*; Footprint: Package_DIP:DIP-40_W15.24mm; Supplier: http://pdf.datasheetcatalog.com/datasheets2/12/1229802_1.pdf
footprint DIP-40_W15.24mm
pins: 1 ENP (in), 2 ~{{WE}} (in), 3 ~{{CS}} (in), 4 ~{{RE}} (in), 5 A0 (in), 6 A1 (in), 7 DAL0 (hiz), 8 DAL1 (hiz), 9 DAL2 (hiz), 10 DAL3 (hiz), 11 DAL4 (hiz), 12 DAL5 (hiz), 13 DAL6 (hiz), 14 DAL7 (hiz), 15 STEP (out), 16 DIRC (out), 17 ~{{5}/8} (in), 18 RPW (in), 19 ~{{MR}} (in), 20 VSS (power), 21 VCC (power), 22 ~{{TEST}} (in), 23 PUMP (out), 24 CLK (in), 25 SSO (out), 26 VCO (in), 27 ~{{RAW_READ}} (in), 28 HLD (out), 29 TG43 (out), 30 WG (out), 31 WD (out), 32 READY (in), 33 WPW (in), 34 ~{{TR00}} (in), 35 ~{{IP}} (in), 36 ~{{WPRT}} (in), 37 ~{{DDEN}} (in), 38 DRQ (out), 39 INTRQ (out), 40 HLT (in)

## Z84C20
designator *  value Z84C20
ki_keywords: Z80 PIO parallel; ki_description: Parallel I/O, CMOS, DIP-40; ki_fp_filters: DIP*W15.24mm*; Footprint: Package_DIP:DIP-40_W15.24mm; Supplier: https://www.zilog.com/appnotes_download.php?FromPage=DirectLink&dn=PS0180&ft=Product%20Specification%20(Data%20Sheet)%20%20&f=YUhSMGNEb3ZMM2QzZHk1NmFXeHZaeTVqYjIwdlpHOWpjeTk2T0RBdmNITXdNVGd3TG5Ca1pnPT0=
footprint DIP-40_W15.24mm
pins: 1 D2 (io), 2 D7 (io), 3 D6 (io), 4 ~{{CE}} (in), 5 C/~{{D}} (in), 6 B/~{{A}} (in), 7 PA7 (io), 8 PA6 (io), 9 PA5 (io), 10 PA4 (io), 11 GND (power), 12 PA3 (io), 13 PA2 (io), 14 PA1 (io), 15 PA0 (io), 16 ~{{ASTB}} (in), 17 ~{{BSTB}} (in), 18 ARDY (out), 19 D0 (io), 20 D1 (io), 21 BRDY (out), 22 IEO (out), 23 ~{{INT}} (oc), 24 IEI (in), 25 CLK (in), 26 VCC (power), 27 PB0 (io), 28 PB1 (io), 29 PB2 (io), 30 PB3 (io), 31 PB4 (io), 32 PB5 (io), 33 PB6 (io), 34 PB7 (io), 35 ~{{RD}} (in), 36 ~{{IORQ}} (in), 37 ~{{M1}} (in), 38 D5 (io), 39 D4 (io), 40 D3 (io)

## Z8420
designator *  value Z8420
ki_keywords: Z80 PIO parallel; ki_description: Parallel I/O, DIP-40; ki_fp_filters: DIP*W15.24mm*; Footprint: Package_DIP:DIP-40_W15.24mm; Supplier: https://www.zilog.com/appnotes_download.php?FromPage=DirectLink&dn=PS0180&ft=Product%20Specification%20(Data%20Sheet)%20%20&f=YUhSMGNEb3ZMM2QzZHk1NmFXeHZaeTVqYjIwdlpHOWpjeTk2T0RBdmNITXdNVGd3TG5Ca1pnPT0=
footprint DIP-40_W15.24mm
pins: 1 D2 (io), 2 D7 (io), 3 D6 (io), 4 ~{{CE}} (in), 5 C/~{{D}} (in), 6 B/~{{A}} (in), 7 PA7 (io), 8 PA6 (io), 9 PA5 (io), 10 PA4 (io), 11 GND (power), 12 PA3 (io), 13 PA2 (io), 14 PA1 (io), 15 PA0 (io), 16 ~{{ASTB}} (in), 17 ~{{BSTB}} (in), 18 ARDY (out), 19 D0 (io), 20 D1 (io), 21 BRDY (out), 22 IEO (out), 23 ~{{INT}} (oc), 24 IEI (in), 25 CLK (in), 26 VCC (power), 27 PB0 (io), 28 PB1 (io), 29 PB2 (io), 30 PB3 (io), 31 PB4 (io), 32 PB5 (io), 33 PB6 (io), 34 PB7 (io), 35 ~{{RD}} (in), 36 ~{{IORQ}} (in), 37 ~{{M1}} (in), 38 D5 (io), 39 D4 (io), 40 D3 (io)